# Altium footprint library 2.54HeaderJumper.PcbLib: 1 footprints
Each footprint in its own frame and in the unit in brackets; x right, y up, seen from the top. Pads: shape width x height; smd on the part's side, far side on the other; paste and mask are expansions set on the pad; w line width, h text height; cw(c..) or ccw(c..) is an arc to the next point about the centre after c.
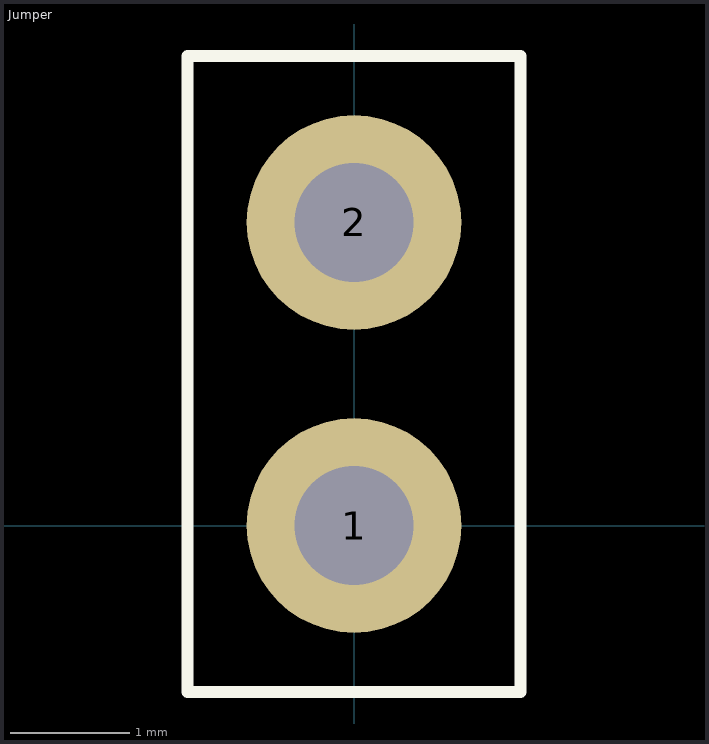
[diagram p0: the footprint, top view; thin cyan lines are the x and y axes]

## Jumper [mm]
pads (2):
  round 1.8 / inner round 0 / far side round 0 hole 1: 1(0,0) 2(0,2.54)
Top Overlay:
  lines w0.1: -1.397,-1.397 -1.397,3.937 1.397,3.937 1.397,-1.397 -1.397,-1.397
3D body "New 2 pin header.stp": height 2.67, standoff -8.87, extent -1.27,-1.27 1.27,3.81
3D body: height 0.25, standoff 0, extent -1.905,3.937 -1.905,3.937
3D body "Jumper.stp": height 11.35, standoff 2.54, extent -1.27,-1.27 1.27,3.81